# EAGLE library part PORTALS_LINK (library ElectricNoodleBox)
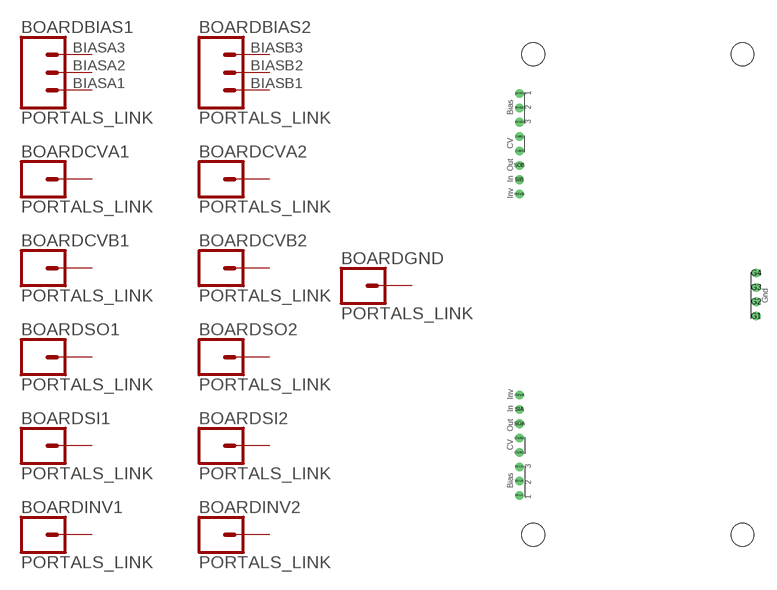
[diagram p19: symbol with the pads of PORTALS; footprint PORTALS]

Designator prefix BOARD; gates BIAS1=CONN_03 CVA1=CONN_01 CVB1=CONN_01 SO1=CONN_01 SI1=CONN_01 INV1=CONN_01 BIAS2=CONN_03 CVA2=CONN_01 CVB2=CONN_01 SO2=CONN_01 SI2=CONN_01 INV2=CONN_01 GND=CONN_01

## PORTALS_LINK  [PORTALS]
BIASA1  BIAS1:1  pas
BIASA2  BIAS1:2  pas
BIASA3  BIAS1:3  pas
BIASB1  BIAS2:1  pas
BIASB2  BIAS2:2  pas
BIASB3  BIAS2:3  pas
CVA1  CVA1:1  pas
CVA2  CVB1:1  pas
CVIB1  CVA2:1  pas
CVIB2  CVB2:1  pas
G1  GND:1  pas
G2  GND:1  pas
G3  GND:1  pas
G4  GND:1  pas
INVA  INV1:1  pas
INVB  INV2:1  pas
SIA  SI1:1  pas
SIB  SI2:1  pas
SOA  SO1:1  pas
SOB  SO2:1  pas

## Footprint PORTALS (pad centres in mm)
drill 1.016: BIASA1 2.54,11.93; BIASA2 2.54,14.47; BIASA3 2.54,17.01; BIASB1 2.54,83.05; BIASB2 2.54,80.51; BIASB3 2.54,77.97; CVA1 2.54,19.55; CVA2 2.54,22.09; CVIB1 2.54,75.43; CVIB2 2.54,72.89; G1 44.45,43.68; G2 44.45,46.22; G3 44.45,48.76; G4 44.45,51.3; INVA 2.54,29.71; INVB 2.54,65.27; SIA 2.54,27.17; SIB 2.54,67.81; SOA 2.54,24.63; SOB 2.54,70.35
hole 4 at 5,5
hole 4 at 5,90
hole 4 at 42,5
hole 4 at 42,90